# EAGLE library part REGULATOR-TI-60131 (library Pygmy)
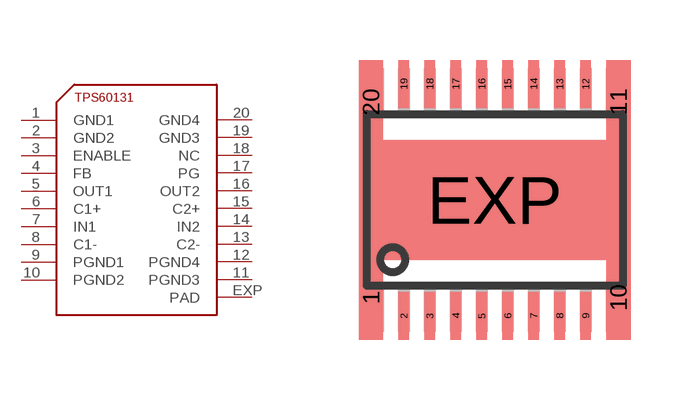
[diagram p44: symbol with the pads of HTSSOP20PWP; footprint HTSSOP20PWP]

Designator prefix -

## REGULATOR-TI-60131  [HTSSOP20PWP]
1  GND1
2  GND2
3  ENABLE
4  FB
5  OUT1
6  C1+
7  IN1
8  C1-
9  PGND1
10  PGND2
11  PGND3
12  PGND4
13  C2-
14  IN2
15  C2+
16  OUT2
17  PG
18  NC
19  GND3
20  GND4
EXP  PAD

## Footprint HTSSOP20PWP (pad centres in mm)
TPS40055PWP (R-PDSO-G**) PowerPAD (TM) 20 pol. PLASTIC SMALL-OUTLINE PACKAGE Source: www.ti.com ... TPS40055 package.pdf & slma002.pdf
smd 0.61 x 2.1: 1 -3.095,-2.45; 10 3.095,-2.45; 11 3.095,2.45; 20 -3.095,2.45
smd 0.27 x 1.2: 2 -2.275,-2.9; 3 -1.625,-2.9; 4 -0.975,-2.9; 5 -0.325,-2.9; 6 0.325,-2.9; 7 0.975,-2.9; 8 1.625,-2.9; 9 2.275,-2.9; 12 2.275,2.9; 13 1.625,2.9; 14 0.975,2.9; 15 0.325,2.9; 16 -0.325,2.9; 17 -0.975,2.9; 18 -1.625,2.9; 19 -2.275,2.9
smd 6.8 x 3: EXP 0,0